# Altium footprint library GL3520 4 Ports.PcbLib: 10 footprints
Each footprint in its own frame and in the unit in brackets; x right, y up, seen from the top. Pads: shape width x height; smd on the part's side, far side on the other; paste and mask are expansions set on the pad; w line width, h text height; cw(c..) or ccw(c..) is an arc to the next point about the centre after c.
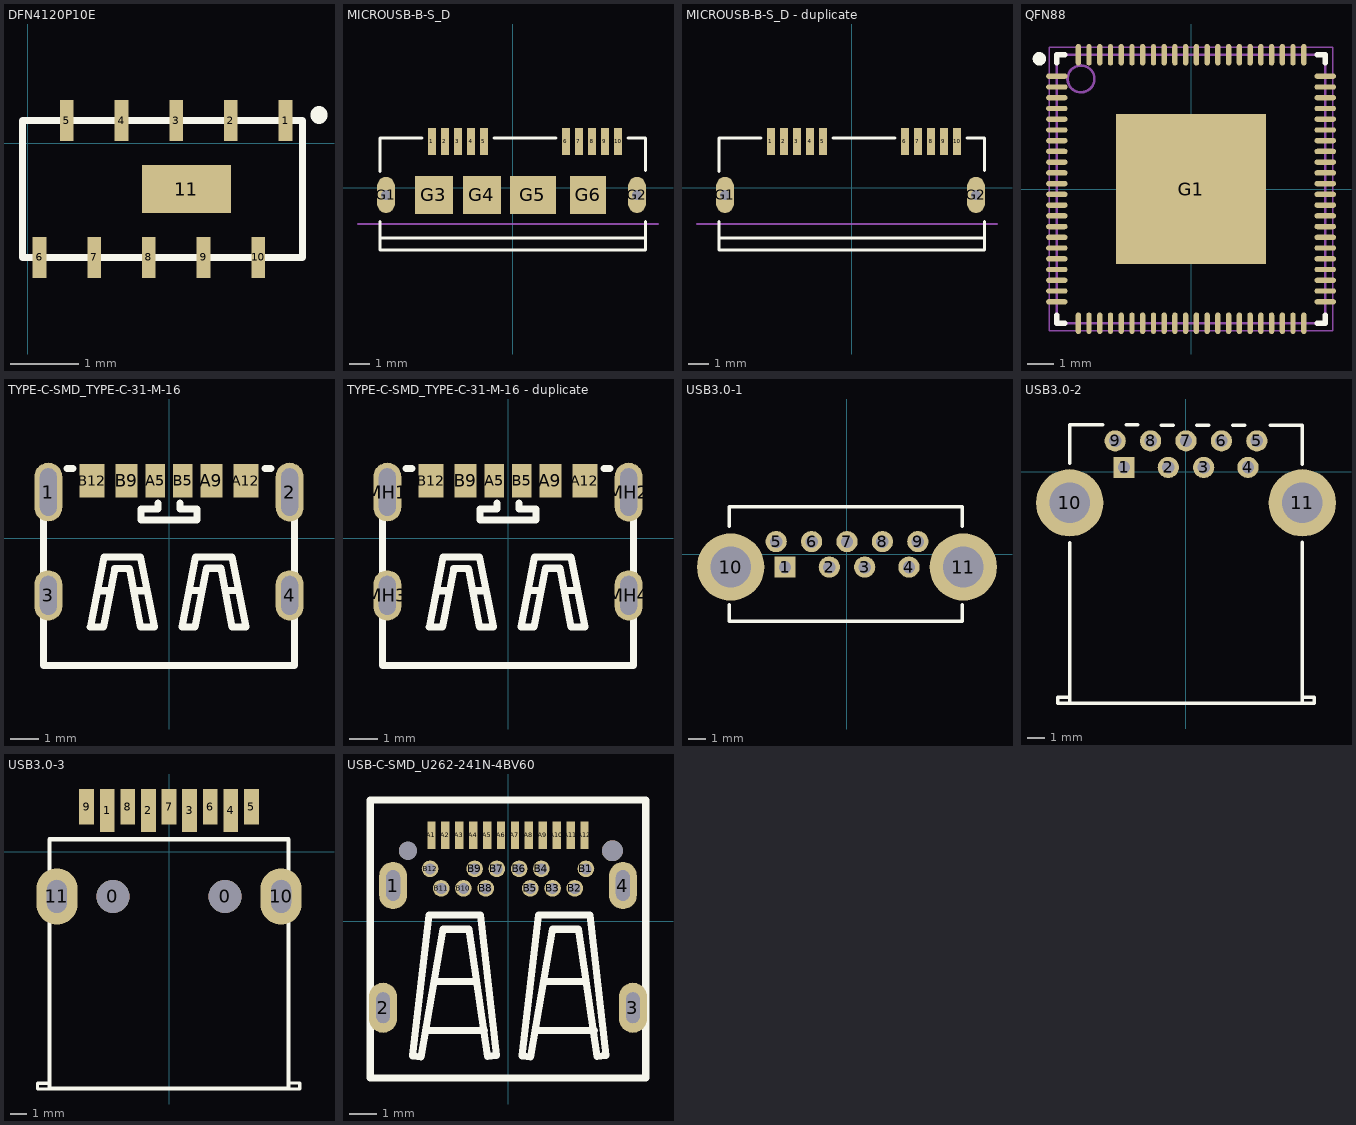
[diagram p0: the footprints below, top view; thin cyan lines are the x and y axes]

## DFN4120P10E [mm]
pads (11):
  rect 0.2x0.6 smd: 1(3.77,0.33) 2(2.97,0.33) 3(2.17,0.33) 4(1.37,0.33) 5(0.57,0.33) 6(0.17,-1.67) 7(0.97,-1.67) 8(1.77,-1.67) 9(2.57,-1.67) 10(3.37,-1.67)
  rect 1.3x0.7 smd: 11(2.32,-0.67)
Top Overlay:
  lines w0.1: -0.08,-1.67 -0.08,0.33 4.02,0.33 4.02,-1.67 -0.08,-1.67
  lines w0.254: 4.26,0.41 4.26,0.42
3D body: height 0.25, standoff 0, extent -0.07,-1.67 4.03,0.32

## MICROUSB-B-S_D [mil]
pads (16):
  rect 15x53 smd: 1(-158.86,91.53) 2(-133.27,91.53) 3(-107.68,91.53) 4(-82.09,91.53) 5(-56.5,91.53) 6(104.92,91.53) 7(130.51,91.53) 8(156.1,91.53) 9(181.69,91.53) 10(207.28,91.53)
  oval 35x71 hole 20: G1(-249.41,-13.78) G2(244.68,-13.78)
  rect 75x75 smd: G3(-154.92,-13.78) G4(-60.43,-13.78)
  rect 90x75 smd: G5(39.96,-13.78)
  rect 71x75 smd: G6(148.23,-13.78)
Top Overlay:
  lines w6: -261.22,-65.94 -261.22,-98.43 ; -261.22,32.48 -261.22,98.42 -178.54,98.42 ; -36.81,98.42 85.23,98.42 ; 226.97,98.42 261.22,98.42 261.22,34.45 ; 261.22,-65.94 261.22,-98.43 ; -261.22,-98.43 261.22,-98.43 ; -261.22,-98.43 -261.22,-122.05 261.22,-122.05 261.22,-98.43
Mechanical 28:
  lines w3.94: -304.53,-70.87 286.02,-70.87

## MICROUSB-B-S_D - duplicate [mil]
pads (12):
  rect 15x53 smd: 1(-158.86,91.53) 2(-133.27,91.53) 3(-107.68,91.53) 4(-82.09,91.53) 5(-56.5,91.53) 6(104.92,91.53) 7(130.51,91.53) 8(156.1,91.53) 9(181.69,91.53) 10(207.28,91.53)
  oval 35x71 hole 20: G1(-249.41,-13.78) G2(244.68,-13.78)
Top Overlay:
  lines w6: -261.22,-65.94 -261.22,-98.43 ; -261.22,32.48 -261.22,98.42 -178.54,98.42 ; -36.81,98.42 85.23,98.42 ; 226.97,98.42 261.22,98.42 261.22,34.45 ; 261.22,-65.94 261.22,-98.43 ; -261.22,-98.43 261.22,-98.43 ; -261.22,-98.43 -261.22,-122.05 261.22,-122.05 261.22,-98.43
Mechanical 28:
  lines w3.94: -304.53,-70.87 286.02,-70.87

## QFN88 [mm] "PQFN, 88-Leads, Body 10.00x10.00mm, Pitch 0.40mm, Thermal Pad 5.60x5.60mm, IPC Medium Density"
height 1
pads (89):
  oval 0.8x0.2 smd: 1(-5,4.2) 2(-5,3.8) 3(-5,3.4) 4(-5,3) 5(-5,2.6) 6(-5,2.2) 7(-5,1.8) 8(-5,1.4) 9(-5,1) 10(-5,0.6) 11(-5,0.2) 12(-5,-0.2) 13(-5,-0.6) 14(-5,-1) 15(-5,-1.4) 16(-5,-1.8) 17(-5,-2.2) 18(-5,-2.6) 19(-5,-3) 20(-5,-3.4) 21(-5,-3.8) 22(-5,-4.2) 45(5,-4.2) 46(5,-3.8) 47(5,-3.4) 48(5,-3) 49(5,-2.6) 50(5,-2.2) 51(5,-1.8) 52(5,-1.4) 53(5,-1) 54(5,-0.6) 55(5,-0.2) 56(5,0.2) 57(5,0.6) 58(5,1) 59(5,1.4) 60(5,1.8) 61(5,2.2) 62(5,2.6) 63(5,3) 64(5,3.4) 65(5,3.8) 66(5,4.2)
  oval 0.2x0.8 smd: 23(-4.2,-5) 24(-3.8,-5) 25(-3.4,-5) 26(-3,-5) 27(-2.6,-5) 28(-2.2,-5) 29(-1.8,-5) 30(-1.4,-5) 31(-1,-5) 32(-0.6,-5) 33(-0.2,-5) 34(0.2,-5) 35(0.6,-5) 36(1,-5) 37(1.4,-5) 38(1.8,-5) 39(2.2,-5) 40(2.6,-5) 41(3,-5) 42(3.4,-5) 43(3.8,-5) 44(4.2,-5) 67(4.2,5) 68(3.8,5) 69(3.4,5) 70(3,5) 71(2.6,5) 72(2.2,5) 73(1.8,5) 74(1.4,5) 75(1,5) 76(0.6,5) 77(0.2,5) 78(-0.2,5) 79(-0.6,5) 80(-1,5) 81(-1.4,5) 82(-1.8,5) 83(-2.2,5) 84(-2.6,5) 85(-3,5) 86(-3.4,5) 87(-3.8,5) 88(-4.2,5)
  rect 5.6x5.6 smd: G1(0,0)
Top Overlay:
  circle w0.25: c-5.65,4.85 r0.125
  lines w0.2: -5,-4.7 -5,-5 -4.7,-5 ; -5,4.7 -5,5 -4.7,5 ; 4.7,-5 5,-5 5,-4.7 ; 4.7,5 5,5 5,4.7
Mechanical 13:
  circle w0.1: c-4.1,4.1 r0.5
  lines w0.1: -5,-5 5,-5 5,5 -5,5 -5,-5
Mechanical 15:
  lines w0.05: -5.275,-5.275 5.275,-5.275 5.275,5.275 -5.275,5.275 -5.275,-5.275
  lines w0.1: -0.5,0 0.5,0 ; 0,-0.5 0,0.5
3D body "PQFN40P1000X1000X100_HS-89N.step": height 1, standoff 0, extent -5,-5 5,5

## TYPE-C-SMD_TYPE-C-31-M-16 [mm]
pads (10):
  oval 1x2.099 hole 0.6 slot 1.7 at 90 deg: 1(-4.32,1.65) 2(4.32,1.65)
  oval 1x1.799 hole 0.6 slot 1.4 at 90 deg: 3(-4.32,-2.05) 4(4.32,-2.05)
  rect 0.7x1.2 smd: A5(-0.5,2.05) B5(0.5,2.05)
  rect 0.8x1.2 smd: A9(1.52,2.05) B9(-1.52,2.05)
  rect 0.9x1.2 smd: A12(2.75,2.05) B12(-2.75,2.05)
Top Overlay:
  lines w0.25: -4.5,-4.55 4.5,-4.55 ; -4.5,-4.5 -4.5,2.49 ; -3.651,2.49 -3.429,2.49 ; -1.01,0.65 1.01,0.65 ; -1,0.65 -1,1.05 -0.4,1.05 -0.4,1.25 ; 0.4,1.25 0.4,1.05 1,1.05 1,0.65 ; 3.429,2.49 3.651,2.49 ; 4.5,-4.5 4.5,2.49
  lines w0.254: -2.518,-1.883 -2.119,-1.883 ; -1.219,-1.882 -0.819,-1.882 ; 0.759,-1.878 1.158,-1.878 ; 2.058,-1.877 2.458,-1.877 ; -2.818,-3.183 -2.343,-3.183 -1.941,-1.083 -1.413,-1.083 -1.014,-3.183 -0.519,-3.183 -1.019,-0.681 -2.32,-0.681 -2.818,-3.183 ; 0.459,-3.178 0.934,-3.178 1.335,-1.078 1.864,-1.078 2.263,-3.178 2.758,-3.178 2.257,-0.676 0.957,-0.676 0.459,-3.178

## TYPE-C-SMD_TYPE-C-31-M-16 - duplicate [mm]
pads (10):
  rect 0.7x1.2 smd: A5(-0.5,2.05) B5(0.5,2.05)
  rect 0.8x1.2 smd: A9(1.52,2.05) B9(-1.52,2.05)
  rect 0.9x1.2 smd: A12(2.75,2.05) B12(-2.75,2.05)
  oval 1x2.099 hole 0.6 slot 1.7 at 90 deg: MH1(-4.32,1.65) MH2(4.32,1.65)
  oval 1x1.799 hole 0.6 slot 1.4 at 90 deg: MH3(-4.32,-2.05) MH4(4.32,-2.05)
Top Overlay:
  lines w0.25: -4.5,-4.55 4.5,-4.55 ; -4.5,-4.5 -4.5,2.49 ; -3.651,2.49 -3.429,2.49 ; -1.01,0.65 1.01,0.65 ; -1,0.65 -1,1.05 -0.4,1.05 -0.4,1.25 ; 0.4,1.25 0.4,1.05 1,1.05 1,0.65 ; 3.429,2.49 3.651,2.49 ; 4.5,-4.5 4.5,2.49
  lines w0.254: -2.518,-1.883 -2.119,-1.883 ; -1.219,-1.882 -0.819,-1.882 ; 0.759,-1.878 1.158,-1.878 ; 2.058,-1.877 2.458,-1.877 ; -2.818,-3.183 -2.343,-3.183 -1.941,-1.083 -1.413,-1.083 -1.014,-3.183 -0.519,-3.183 -1.019,-0.681 -2.32,-0.681 -2.818,-3.183 ; 0.459,-3.178 0.934,-3.178 1.335,-1.078 1.864,-1.078 2.263,-3.178 2.758,-3.178 2.257,-0.676 0.957,-0.676 0.459,-3.178

## USB3.0-1 [mm] "Connector; USB1.1, Type A, Thru-Hole; 4 Position; Vertical"
height 15
pads (11):
  rect 1.2x1.2 hole 0.7: 1(-3.5,-0.72)
  round 1.2 hole 0.7: 2(-1,-0.72) 3(1,-0.72) 4(3.5,-0.72) 5(-4,0.72) 6(-2,0.72) 7(0,0.72) 8(2,0.72) 9(4,0.72)
  round 3.8 hole 2.3: 10(-6.57,-0.72) 11(6.57,-0.72)
Top Overlay:
  lines w0.2: -6.644,1.594 -6.644,2.674 6.499,2.681 6.499,1.594 ; -6.64,-2.853 -6.64,-3.775 6.519,-3.768 6.519,-2.853
3D body "usb3_ausb3_a-top.stp": height 15, standoff -3.8, extent -7.8,-4.15 7.8,3.05

## USB3.0-2 [mm] "Connector; USB1.1, Type A, Thru-Hole; 4 Position; Right Angle"
height 7.01
pads (11):
  rect 1.2x1.2 hole 0.7: 1(-3.5,0.25)
  round 1.2 hole 0.7: 2(-1,0.25) 3(1,0.25) 4(3.5,0.25) 5(4,1.75) 6(2,1.75) 7(0,1.75) 8(-2,1.75) 9(-4,1.75)
  round 3.8 hole 2.3: 10(-6.57,-1.75) 11(6.57,-1.75)
Top Overlay:
  lines w0.2: -6.586,-13.075 6.544,-13.075 ; -6.565,-12.717 -7.25,-12.717 -7.25,-13.073 -6.565,-13.073 -6.565,-3.99 ; -6.565,0.497 -6.565,2.67 -4.7,2.67 ; -3.362,2.656 -2.722,2.656 ; -1.404,2.643 -0.724,2.643 ; 0.614,2.637 1.294,2.637 ; 2.633,2.63 3.313,2.63 ; 4.768,2.629 6.565,2.629 6.565,0.426 ; 6.565,-12.721 7.25,-12.721 7.25,-13.073 6.565,-13.073 6.565,-3.967
3D body "uj3-ah-4-th.stp": height 7.77, standoff -3.43, extent -7.828,-13.539 7.872,2.961

## USB3.0-3 [mm]
pads (13):
  round 2 hole 2: 0(-3.4,-2.722) 0(3.4,-2.722)
  rect 0.9x2.6 smd: 1(-3.75,2.498) 2(-1.25,2.498) 3(1.25,2.498) 4(3.75,2.498)
  rect 0.9x2.15 smd: 5(5,2.722) 6(2.5,2.723) 7(0,2.723) 8(-2.5,2.723) 9(-5,2.723)
  oval 2.5x3.4 hole 1.2 slot 2 at 90 deg: 10(6.8,-2.722) 11(-6.8,-2.722)
Top Overlay:
  lines w0.2: -7.291,-14.399 -7.976,-14.399 -7.976,-14.043 -7.291,-14.043 ; 7.243,-14.396 7.928,-14.396 7.928,-14.04 7.243,-14.04
  lines w0.254: -7.25,-14.372 7.25,-14.372 7.25,0.753 -7.25,0.753 -7.25,-14.372
3D body "STP_692122030100 (rev1).stp": height 7.96, standoff -2.28, extent -7.526,-14.451 7.574,3.349

## USB-C-SMD_U262-241N-4BV60 [mm]
pads (30):
  oval 1x1.699 hole 0.5 slot 1.1 at 90 deg: 1(-4.13,1.29) 4(4.13,1.29)
  oval 1x1.799 hole 0.5 slot 1.1 at 90 deg: 2(-4.49,-3.1) 3(4.49,-3.1)
  rect 0.3x1 smd: A1(-2.75,3.1) A2(-2.25,3.1) A3(-1.75,3.1) A4(-1.25,3.1) A5(-0.75,3.1) A6(-0.25,3.1) A7(0.25,3.1) A8(0.75,3.1) A9(1.25,3.1) A10(1.75,3.1) A11(2.25,3.1) A12(2.75,3.1)
  round 0.6 hole 0.4: B1(2.8,1.89) B2(2.4,1.19) B3(1.6,1.19) B4(1.2,1.89) B5(0.8,1.19) B6(0.4,1.89) B7(-0.4,1.89) B8(-0.8,1.19) B9(-1.2,1.89) B10(-1.6,1.19) B11(-2.4,1.19) B12(-2.8,1.89)
  round 0.65 hole 0.65 unplated: ""(-3.6,2.54)
  round 0.75 hole 0.75 unplated: ""(3.75,2.54)
Top Overlay:
  lines w0.254: -2.921,-3.912 -0.838,-3.912 ; -2.616,-2.159 -1.168,-2.159 ; 1.016,-3.912 3.099,-3.912 ; 1.321,-2.159 2.769,-2.159 ; -4.95,-5.63 -4.95,4.37 4.95,4.37 4.95,-5.63 -4.95,-5.63 ; -3.429,-4.826 -3.124,-4.877 -2.337,-0.279 -1.397,-0.279 -0.742,-4.844 -0.409,-4.818 -0.991,0.229 -2.845,0.229 -3.429,-4.826 ; 0.508,-4.826 1.092,0.229 2.946,0.229 3.528,-4.818 3.195,-4.844 2.54,-0.279 1.6,-0.279 0.813,-4.877 0.508,-4.826